# Altium footprint library EST_PCB.PcbLib: 28 footprints (part 1 of 2)
Each footprint in its own frame and in the unit in brackets; x right, y up, seen from the top. Pads: shape width x height; smd on the part's side, far side on the other; paste and mask are expansions set on the pad; w line width, h text height; cw(c..) or ccw(c..) is an arc to the next point about the centre after c.
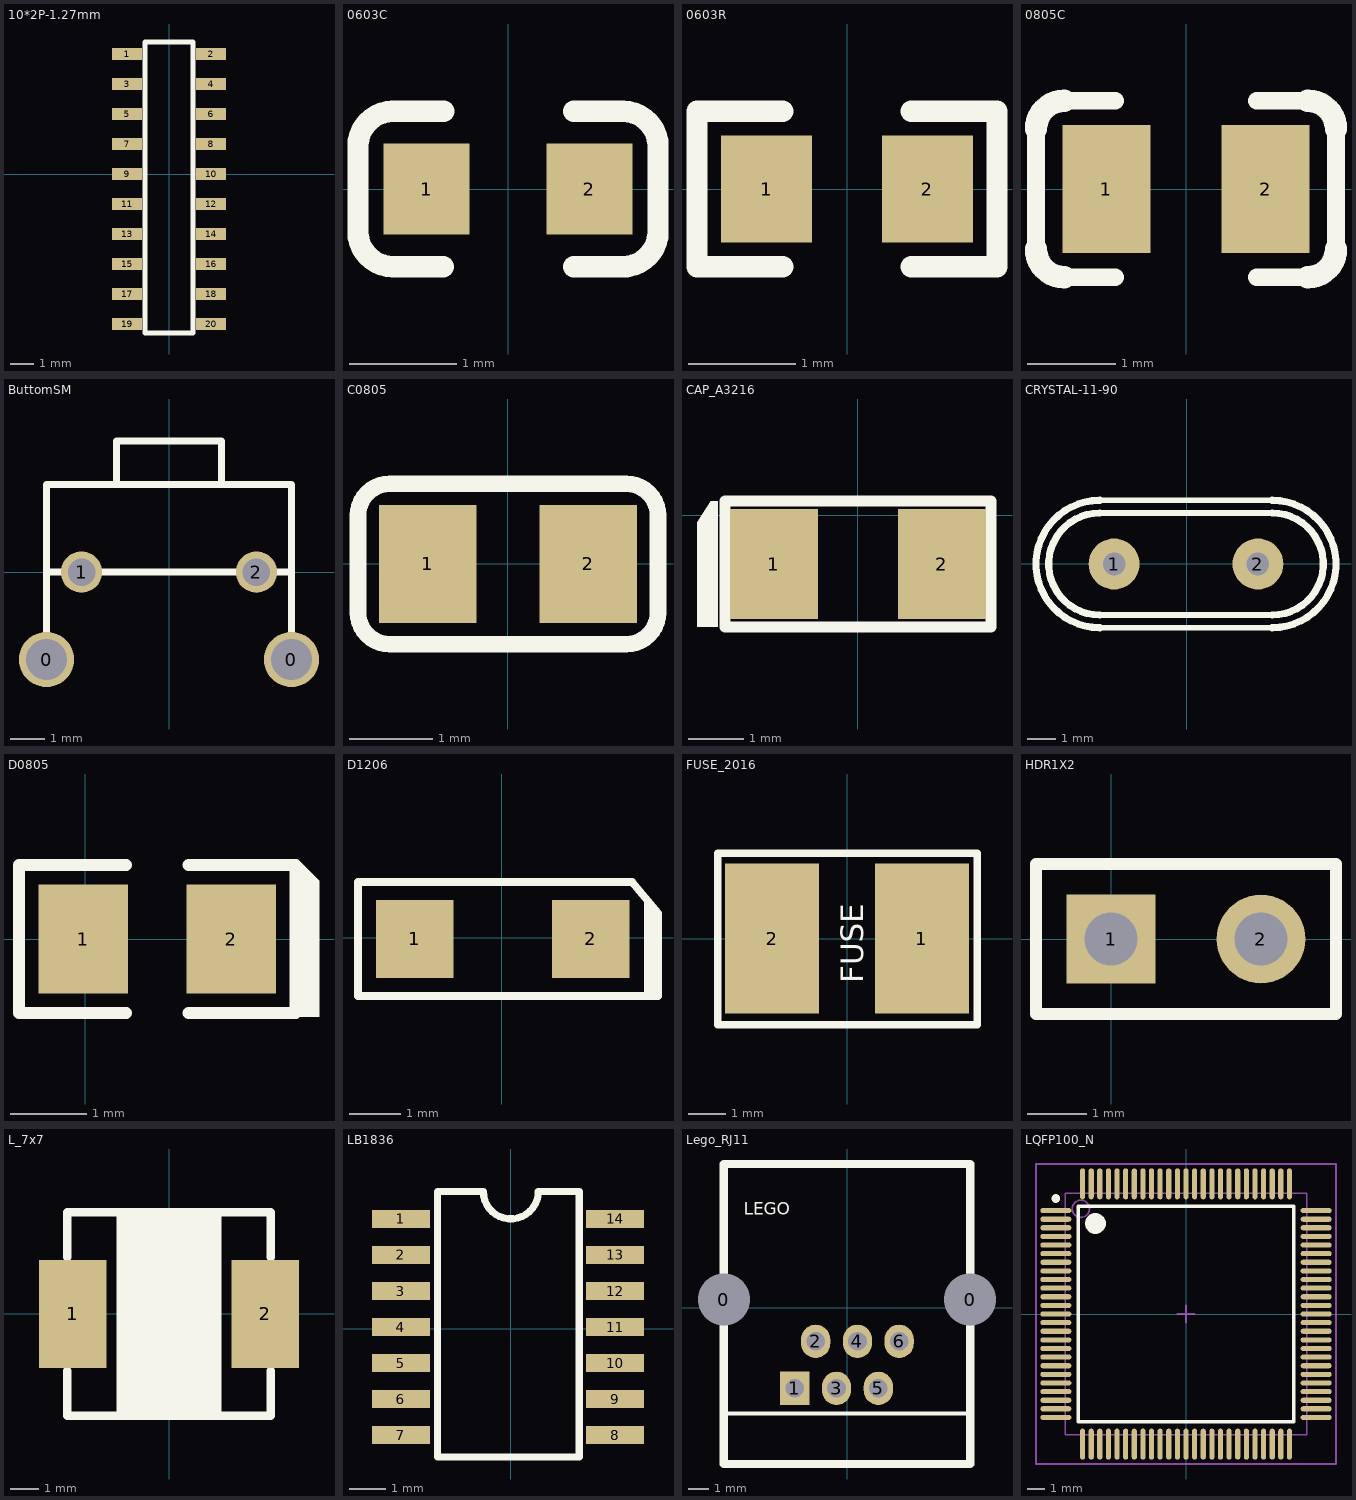
[diagram p0: the footprints below, top view; thin cyan lines are the x and y axes]

## 10*2P-1.27mm [mm]
height 5
pads (20):
  rect 1.27x0.5 smd: 1(-1.778,5.08) 2(1.778,5.08) 3(-1.778,3.81) 4(1.778,3.81) 5(-1.778,2.54) 6(1.778,2.54) 7(-1.778,1.27) 8(1.778,1.27) 9(-1.778,0) 10(1.778,0) 11(-1.778,-1.27) 12(1.778,-1.27) 13(-1.778,-2.54) 14(1.778,-2.54) 15(-1.778,-3.81) 16(1.778,-3.81) 17(-1.778,-5.08) 18(1.778,-5.08) 19(-1.778,-6.35) 20(1.778,-6.35)
Top Overlay:
  lines w0.2: -1.016,-6.731 1.016,-6.731 1.016,5.588 -1.016,5.588 -1.016,-6.731

## 0603C [mm]
pads (2):
  rect 0.8x0.85 smd: 1(-0.76,0) 2(0.76,0)
Top Overlay:
  lines w0.2: -1.4,-0.4 ccw(c-1.076,-0.4) -1.076,-0.724 -0.605,-0.724 ; -1.4,-0.395 -1.4,0.4 cw(c-1.076,0.4) -1.076,0.724 ; -1.081,0.724 -0.6,0.724 ; 0.615,-0.724 1.11,-0.724 ; 0.615,0.724 1.076,0.724 cw(c1.076,0.4) 1.4,0.4 ; 1.076,-0.724 ccw(c1.076,-0.4) 1.4,-0.4 ; 1.4,-0.432 1.4,0.398

## 0603R [mm]
pads (2):
  rect 0.85x1 smd: 1(-0.75,0) 2(0.75,0)
Top Overlay:
  lines w0.2: -1.4,-0.724 -0.6,-0.724 ; -1.4,-0.711 -1.4,0.724 -0.6,0.724 ; 0.6,-0.724 1.4,-0.724 1.4,0.724 0.6,0.724

## 0805C [mm]
pads (2):
  rect 1x1.45 smd: 1(-0.9,0) 2(0.9,0)
Top Overlay:
  lines w0.2: -1.698,-0.667 -1.698,0.679 ; -1.435,-0.999 -0.8,-0.999 ; -1.41,0.999 -0.8,0.999 ; 0.8,-0.999 1.41,-0.999 ; 0.8,0.999 1.435,0.999 ; 1.698,-0.679 1.698,0.667
  lines w0.254: -1.698,-0.679 ccw(c-1.378,-0.679) -1.378,-0.999 ; -1.698,0.679 cw(c-1.378,0.679) -1.378,0.999 ; 1.378,-0.999 ccw(c1.378,-0.679) 1.698,-0.679 ; 1.378,0.999 cw(c1.378,0.679) 1.698,0.679

## ButtomSM [mm]
pads (4):
  round 1.6 hole 1.2: 0(-3.556,-2.54) 0(3.556,-2.54)
  round 1.2 hole 0.8: 1(-2.54,0) 2(2.54,0)
Top Overlay:
  lines w0.2: -3.556,-2.54 -3.556,2.54 ; -3.556,0 3.556,0 ; -1.524,2.54 -1.524,3.302 -1.524,3.81 1.524,3.81 1.524,2.54 ; -1.016,2.54 -3.556,2.54 ; 3.556,-2.54 3.556,2.54 -3.556,2.54

## C0805 [mil]
pads (2):
  rect 46x56 smd: 1(-37.95,-0.19) 2(38.05,-0.19)
Top Overlay:
  lines w7.87: -70.95,-23.19 ccw(c-55.95,-23.19) -55.95,-38.19 16.05,-38.19 56.05,-38.19 ccw(c56.05,-23.19) 71.05,-23.19 71.05,22.81 ccw(c56.05,22.81) 56.05,37.81 16.05,37.81 -55.95,37.81 ccw(c-55.95,22.81) -70.95,22.81 -70.95,-23.19

## CAP_A3216 [mm]
height 2
pads (2):
  rect 1.6x2 smd: 1(-1.524,-0.889) 2(1.524,-0.889)
Top Overlay:
  region: -2.54,0.254 -2.667,0.254 -2.921,-0.127 -2.921,-2.032 -2.54,-2.032
  lines w0.2: -2.413,-2.032 2.413,-2.032 2.413,0.254 -2.413,0.254 -2.413,-2.032

## CRYSTAL-11-90 [mm]
pads (2):
  round 1.8 hole 0.8: 1(-2.561,-0.007) 2(2.519,-0.007)
Top Overlay:
  lines w0.2: -3.271,-2.257 3.229,-2.257 ; -3.271,-1.807 3.229,-1.807 ; -3.271,1.793 3.229,1.793 ; -3.271,2.243 3.229,2.243
  lines w0.254: -3.069,-2.257 cw(c-3.069,-0.007) -3.069,2.243 ; -3.069,-1.807 cw(c-3.069,-0.007) -3.069,1.793 ; 3.027,-2.257 ccw(c3.027,-0.007) 3.027,2.243 ; 3.027,-1.807 ccw(c3.027,-0.007) 3.027,1.793

## D0805 [mil]
pads (2):
  rect 46x56 smd: 1(-1,0) 2(75,0)
Top Overlay:
  region: 110,40 120,30 120,-40 105,-40 105,40
  lines w6: 21,-38 -34,-38 -34,38 21,38 ; 53,-38 108,-38 ; 53,38 108,38

## D1206 [mm]
pads (2):
  rect 1.5x1.5 smd: 1(-1.682,-0.02) 2(1.718,-0.02)
Top Overlay:
  lines w0.15: 2.818,-1.12 2.818,0.68 ; 2.918,-1.12 2.918,0.58 ; 3.018,-1.12 -2.782,-1.12 -2.782,-0.02 -2.782,1.08 2.518,1.08 3.018,0.48 3.018,-1.11

## FUSE_2016 [mm]
pads (2):
  rect 2.5x4 smd: 1(2,0) 2(-2,0)
Top Overlay:
  lines w0.2: -3.45,-2.301 -3.45,2.281 3.475,2.281 3.475,-2.301 -3.45,-2.301
  text "FUSE" at 0.427,-1.194 h0.6

## HDR1X2 [mm] "Connector; Header; 2 Position"
pads (2):
  rect 1.5x1.5 hole 0.9: 1(0,0)
  round 1.5 hole 0.9: 2(2.54,0)
Top Overlay:
  lines w0.2: -1.27,-1.27 -1.27,1.27 3.81,1.27 3.81,-1.27 -1.27,-1.27

## L_7x7 [mm]
pads (2):
  rect 2.4x3.8 smd: 1(-3.4,0) 2(3.4,0)
Top Overlay:
  rectangle: -1.849,-3.6 1.854,3.6
  lines w0.3: -3.6,-2 -3.6,-3.6 3.6,-3.6 3.6,-2 ; -3.6,2 -3.6,3.6 3.6,3.6 3.6,2

## LB1836 [mm]
height 2
pads (14):
  rect 1.6x0.5 smd: 1(-3.048,3.048) 2(-3.048,2.048) 3(-3.048,1.048) 4(-3.048,0.048) 5(-3.048,-0.952) 6(-3.048,-1.952) 7(-3.048,-2.952) 8(2.892,-2.952) 9(2.892,-1.952) 10(2.892,-0.952) 11(2.892,0.048) 12(2.892,1.048) 13(2.892,2.048) 14(2.892,3.048)
Top Overlay:
  lines w0.2: -2.032,-3.556 -2.032,3.81 -0.762,3.81 ccw(c0,3.81) 0.762,3.81 1.9,3.81 1.9,-3.556 -2.032,-3.556

## Lego_RJ11 [mm]
pads (8):
  round 2.2 hole 2.5: 0(-5.9,0.381) 0(5.9,0.381)
  rect 1.4x1.6 hole 0.9: 1(-2.5,-3.873)
  oval 1.4x1.6 hole 0.9: 2(-1.5,-1.619) 3(-0.5,-3.873) 4(0.5,-1.619) 5(1.5,-3.873) 6(2.5,-1.619)
Top Overlay:
  lines w0.2: -5.9,-5.08 5.9,-5.08
  lines w0.4: -5.9,-7.5 5.9,-7.5 5.9,6.881 -5.9,6.881 -5.9,-7.5
  text "LEGO" at -4.953,4.445 h0.6

## LQFP100_N [mm]
pads (100):
  oval 1.8x0.3 smd: 1(-7.55,6) 2(-7.55,5.5) 3(-7.55,5) 4(-7.55,4.5) 5(-7.55,4) 6(-7.55,3.5) 7(-7.55,3) 8(-7.55,2.5) 9(-7.55,2) 10(-7.55,1.5) 11(-7.55,1) 12(-7.55,0.5) 13(-7.55,0) 14(-7.55,-0.5) 15(-7.55,-1) 16(-7.55,-1.5) 17(-7.55,-2) 18(-7.55,-2.5) 19(-7.55,-3) 20(-7.55,-3.5) 21(-7.55,-4) 22(-7.55,-4.5) 23(-7.55,-5) 24(-7.55,-5.5) 25(-7.55,-6) 51(7.55,-6) 52(7.55,-5.5) 53(7.55,-5) 54(7.55,-4.5) 55(7.55,-4) 56(7.55,-3.5) 57(7.55,-3) 58(7.55,-2.5) 59(7.55,-2) 60(7.55,-1.5) 61(7.55,-1) 62(7.55,-0.5) 63(7.55,0) 64(7.55,0.5) 65(7.55,1) 66(7.55,1.5) 67(7.55,2) 68(7.55,2.5) 69(7.55,3) 70(7.55,3.5) 71(7.55,4) 72(7.55,4.5) 73(7.55,5) 74(7.55,5.5) 75(7.55,6)
  oval 0.3x1.8 smd: 26(-6,-7.55) 27(-5.5,-7.55) 28(-5,-7.55) 29(-4.5,-7.55) 30(-4,-7.55) 31(-3.5,-7.55) 32(-3,-7.55) 33(-2.5,-7.55) 34(-2,-7.55) 35(-1.5,-7.55) 36(-1,-7.55) 37(-0.5,-7.55) 38(0,-7.55) 39(0.5,-7.55) 40(1,-7.55) 41(1.5,-7.55) 42(2,-7.55) 43(2.5,-7.55) 44(3,-7.55) 45(3.5,-7.55) 46(4,-7.55) 47(4.5,-7.55) 48(5,-7.55) 49(5.5,-7.55) 50(6,-7.55) 76(6,7.55) 77(5.5,7.55) 78(5,7.55) 79(4.5,7.55) 80(4,7.55) 81(3.5,7.55) 82(3,7.55) 83(2.5,7.55) 84(2,7.55) 85(1.5,7.55) 86(1,7.55) 87(0.5,7.55) 88(0,7.55) 89(-0.5,7.55) 90(-1,7.55) 91(-1.5,7.55) 92(-2,7.55) 93(-2.5,7.55) 94(-3,7.55) 95(-3.5,7.55) 96(-4,7.55) 97(-4.5,7.55) 98(-5,7.55) 99(-5.5,7.55) 100(-6,7.55)
Top Overlay:
  circle w0.6: c-5.25,5.25 r0.3
  circle w0.25: c-7.55,6.7 r0.125
  lines w0.2: -6.25,-6.25 6.25,-6.25 6.25,6.25 -6.25,6.25 -6.25,-6.25
Mechanical 13:
  circle w0.1: c-6.1,6.1 r0.5
  lines w0.1: -7,-7 7,-7 7,7 -7,7 -7,-7
Mechanical 15:
  lines w0.1: -0.5,0 0.5,0 ; 0,-0.5 0,0.5 ; -8.7,-8.7 8.7,-8.7 8.7,8.7 -8.7,8.7 -8.7,-8.7